# EAGLE library part TRINKET (library Adafruit_Modules)
Original Adafruit Trinket
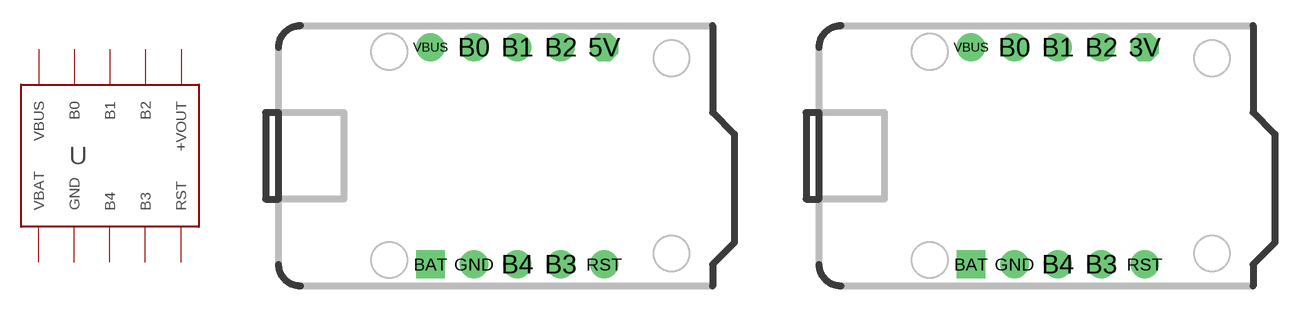
[diagram p8: symbol with the pads of TRINKET_5V; footprints TRINKET_5V, TRINKET_3V]

Designator prefix -

## TRINKET5V (ADAFRUIT: 1501)  [TRINKET_5V]
5V  +VOUT  out
B0  B0
B1  B1
B2  B2
B3  B3
B4  B4
BAT  VBAT  pwr
GND  GND  pwr
RST  RST
VBUS  VBUS  out

## TRINKET3V (ADAFRUIT: 1500)  [TRINKET_3V]
3V  +VOUT  out
B0  B0
B1  B1
B2  B2
B3  B3
B4  B4
BAT  VBAT  pwr
GND  GND  pwr
RST  RST
VBUS  VBUS  out

## Footprint TRINKET_5V (pad centres in mm)
Adafruit Trinket 5V
drill 1.1 octagon: 5V 6.35,6.35
drill 1.1: B0 -1.27,6.35; B1 1.27,6.35; B2 3.81,6.35; B3 3.81,-6.35; B4 1.27,-6.35; GND -1.27,-6.35; RST 6.35,-6.35; VBUS -3.81,6.35
drill 1.1 square: BAT -3.81,-6.35

## Footprint TRINKET_3V (pad centres in mm)
Adafruit Trinket 3V
drill 1.1 octagon: 3V 6.35,6.35
drill 1.1: B0 -1.27,6.35; B1 1.27,6.35; B2 3.81,6.35; B3 3.81,-6.35; B4 1.27,-6.35; GND -1.27,-6.35; RST 6.35,-6.35; VBUS -3.81,6.35
drill 1.1 square: BAT -3.81,-6.35